# Altium integrated library Panasonic Relays Power Relays (Over 2A).IntLib: 286 symbols (part 4 of 8)
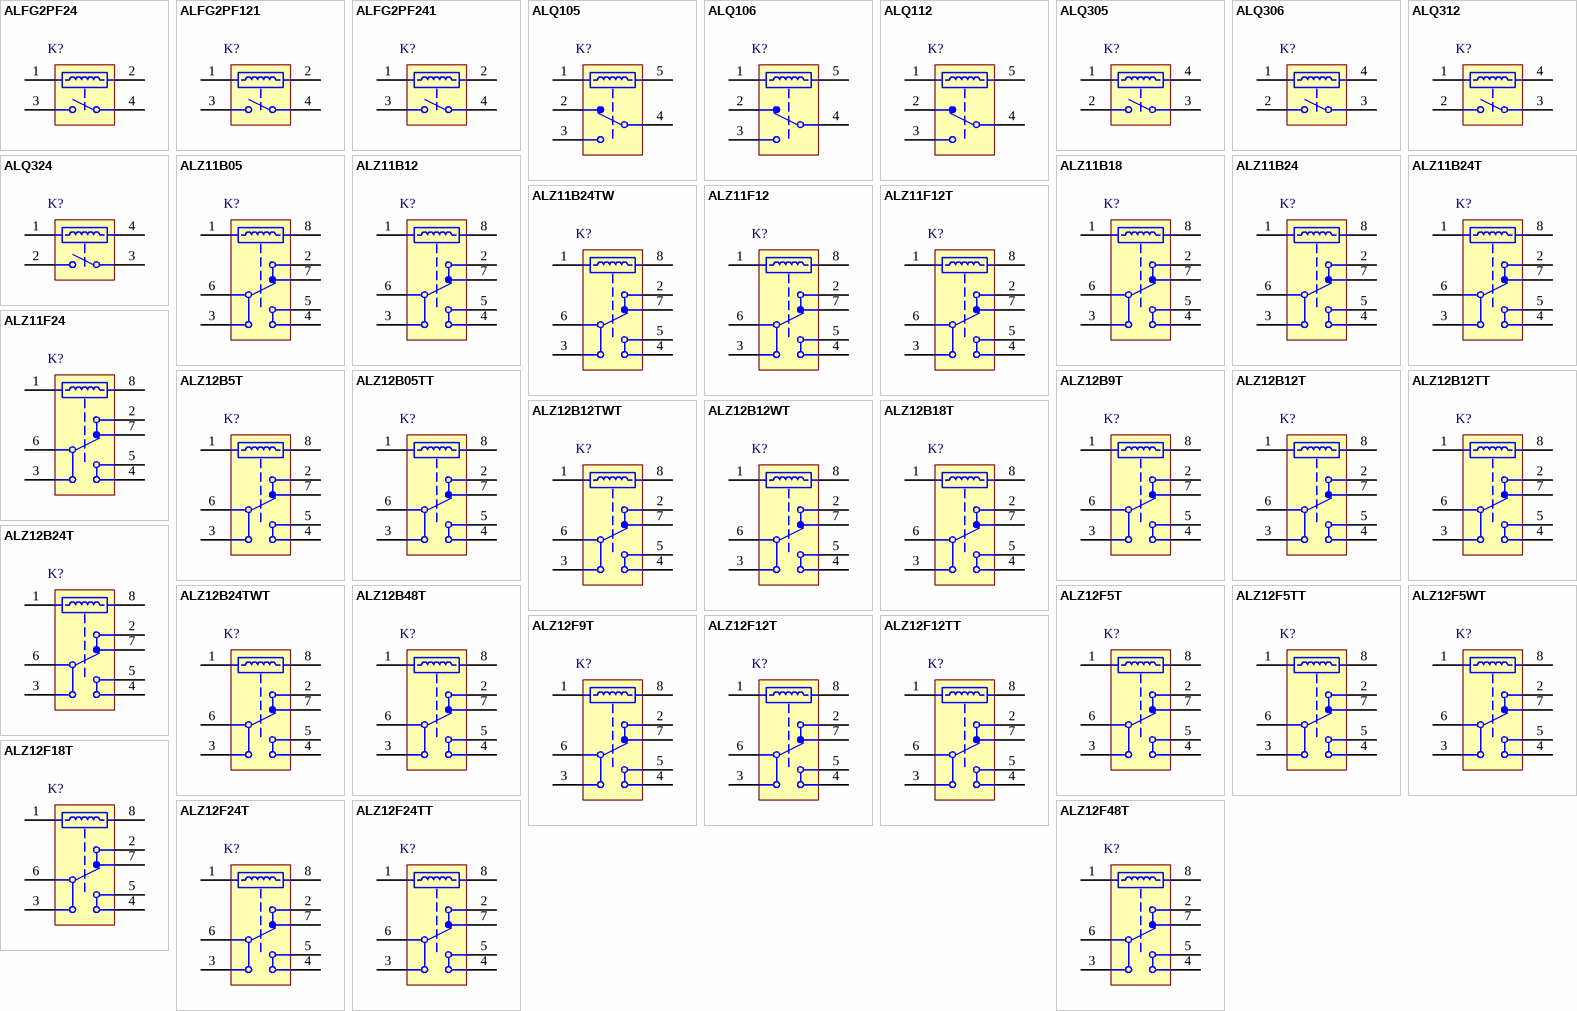
[diagram p10: symbols ALFG2PF24 to ALZ12F48T]

## ALZ12F24TT
designator K?
LZ Relays, 24 V Coil Voltage, 400 mW Nominal Operating Power, -40 to 85 degC, 8-Pin LZ, Carton, Case, RoHS; Manufacturer: Panasonic; PartNumber: ALZ12F24TT; Coil Voltage: 24 V; Electrical Life: 1x10^5 (N.O.), 5x10^4 (N.C.); Max Switching Current: 16 A; Max Switching Voltage: 440 V AC; Mechanical Life(Min.operation): 1x10^7; Nominal Operating Power: 400 mW; Pb-Free: True; DatasheetVersion: 201402-T; PackageVersion: ASCTB203E, 02/2014; PackageReference: LZ-8-2880x1250x1570; PackageDescription: 8-Pin Through Hole Terminal Package, Body 28.8 x 12.5 mm; Packing: Carton, Case; RoHS: True; Series: LZ Relays; Mounting Technology: Through Hole; ComponentLink1Description: Manufacturer URL; ComponentLink1URL: http://www3.panasonic.biz/ac/ae/index.jsp; ComponentLink2Description: Datasheet; ComponentLink2URL: http://www3.panasonic.biz/ac/e_download/control/relay/power/catalog/mech_eng_lz.pdf?f_cd=300372; ComponentLink3Description: Package Specification; ComponentLink3URL: http://www3.panasonic.biz/ac/e_download/control/relay/power/catalog/mech_eng_lz.pdf?f_cd=300372
footprint PNSC-LZ-8-2880x1250x1570_V (LZ, 8-Leads, Body 28.8x12.5mm)
pins: 1, 2, 3, 4, 5, 6, 7, 8

## ALZ12F48T
designator K?
LZ Relays, 48 V Coil Voltage, 400 mW Nominal Operating Power, -40 to 85 degC, 8-Pin LZ, Carton, Case, RoHS; Manufacturer: Panasonic; PartNumber: ALZ12F48T; Coil Voltage: 48 V; Electrical Life: 1x10^5 (N.O.), 5x10^4 (N.C.); Max Switching Current: 16 A; Max Switching Voltage: 440 V AC; Mechanical Life(Min.operation): 1x10^7; Nominal Operating Power: 400 mW; Pb-Free: True; DatasheetVersion: 201202-T; PackageVersion: ASCTB203E, 02/2014; PackageReference: LZ-8-2880x1250x1570; PackageDescription: 8-Pin Through Hole Terminal Package, Body 28.8 x 12.5 mm; Supplier 1: Mouser; Supplier Part Number 1: N/A; Packing: Carton, Case; RoHS: True; Series: LZ Relays; Mounting Technology: Through Hole; ComponentLink1Description: Manufacturer URL; ComponentLink1URL: http://www3.panasonic.biz/ac/ae/index.jsp; ComponentLink2Description: Datasheet; ComponentLink2URL: http://www.electricautomationnetwork.com/en/PA/panasonic/ALZ12B48T; ComponentLink3Description: Package Specification; ComponentLink3URL: http://www3.panasonic.biz/ac/e_download/control/relay/power/catalog/mech_eng_lz.pdf?f_cd=300372
footprint PNSC-LZ-8-2880x1250x1570_V (LZ, 8-Leads, Body 28.8x12.5mm)
pins: 1, 2, 3, 4, 5, 6, 7, 8

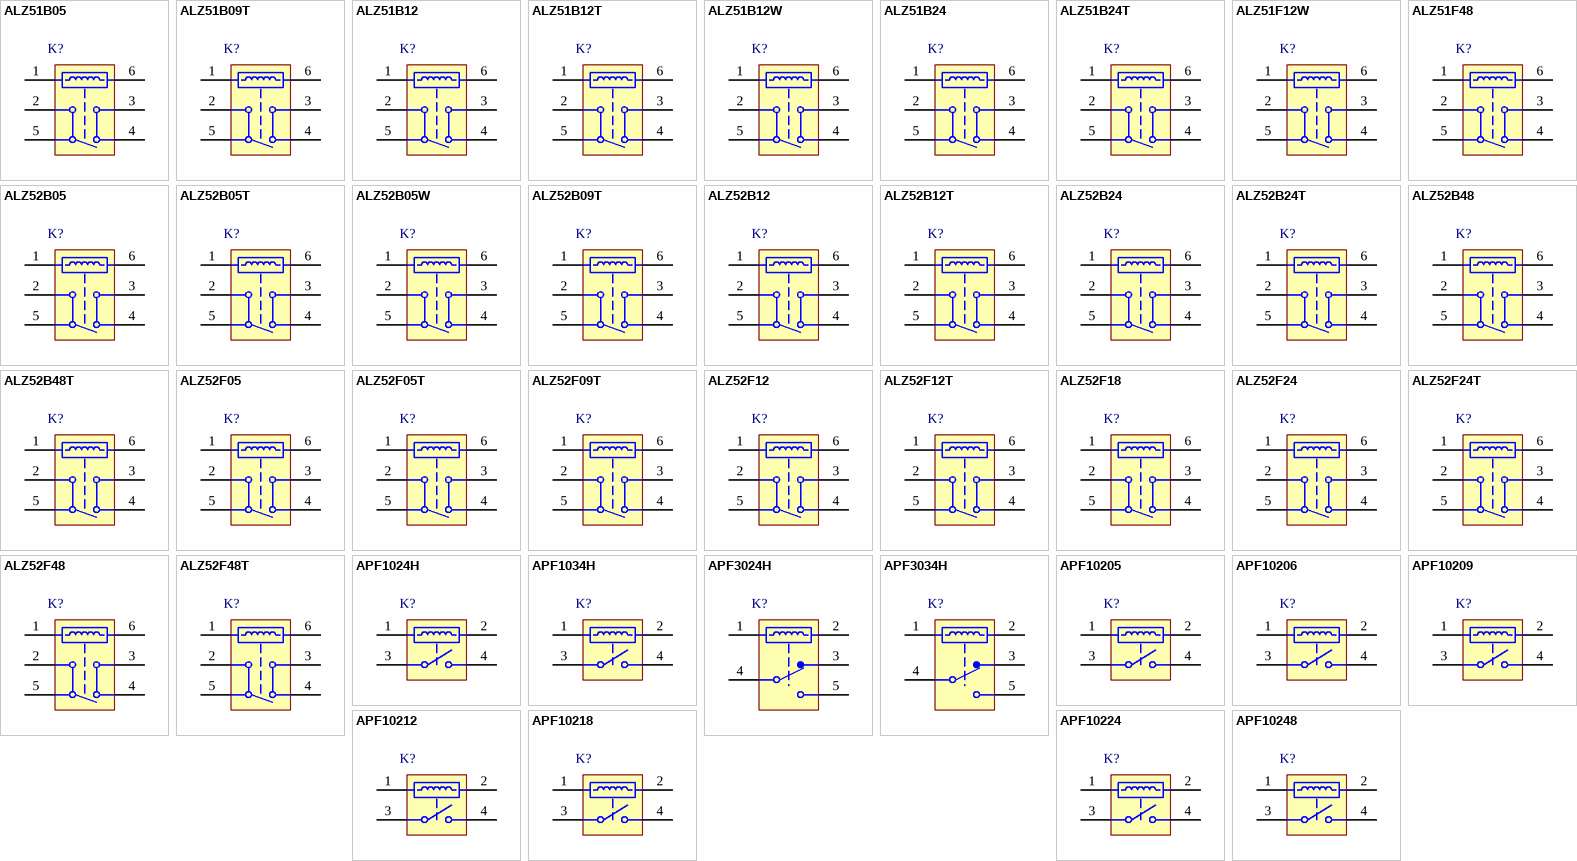
[diagram p3: symbols ALZ51B05 to APF10248]

## ALZ51B05
designator K?
LZ Relays, 5 V Coil Voltage, 400 mW Nominal Operating Power, -40 to 85 degC, 6-Pin LZ, Carton, Case, RoHS; Manufacturer: Panasonic; PartNumber: ALZ51B05; Coil Voltage: 5 V; Electrical Life: 1x10^5 (N.O.), 5x10^4 (N.C.); Max Switching Current: 16 A; Max Switching Voltage: 440 V AC; Mechanical Life(Min.operation): 1x10^7; Nominal Operating Power: 400 mW; Pb-Free: True; DatasheetVersion: 201402-T; PackageVersion: ASCTB203E, 02/2014; PackageReference: LZ-6-2880x1250x1570; PackageDescription: 6-Pin Through Hole Terminal Package, Body 28.8 x 12.5 mm; Supplier 1: Mouser; Supplier Part Number 1: 769-ALZ51B05; Supplier 2: Digi-Key; Supplier Part Number 2: 255-4090-5-ND; Packing: Carton, Case; RoHS: True; Series: LZ Relays; Mounting Technology: Through Hole; ComponentLink1Description: Manufacturer URL; ComponentLink1URL: http://www3.panasonic.biz/ac/ae/index.jsp; ComponentLink2Description: Datasheet; ComponentLink2URL: http://www3.panasonic.biz/ac/e_download/control/relay/power/catalog/mech_eng_lz.pdf?f_cd=300372; ComponentLink3Description: Package Specification; ComponentLink3URL: http://www3.panasonic.biz/ac/e_download/control/relay/power/catalog/mech_eng_lz.pdf?f_cd=300372
footprint PNSC-LZ-6-2880x1250x1570_V (LZ, 6-Leads, Body 28.8x12.5mm)
pins: 1, 2, 3, 4, 5, 6

## ALZ51B09T
designator K?
LZ Relays, 9 V Coil Voltage, 400 mW Nominal Operating Power, -40 to 85 degC, 6-Pin LZ, Carton, Case, RoHS; Manufacturer: Panasonic; PartNumber: ALZ51B09T; Coil Voltage: 9 V; Electrical Life: 1x10^5 (N.O.), 5x10^4 (N.C.); Max Switching Current: 16 A; Max Switching Voltage: 440 V AC; Mechanical Life(Min.operation): 1x10^7; Nominal Operating Power: 400 mW; Pb-Free: True; DatasheetVersion: 201402-T; PackageVersion: ASCTB203E, 02/2014; PackageReference: LZ-6-2880x1250x1570; PackageDescription: 6-Pin Through Hole Terminal Package, Body 28.8 x 12.5 mm; Supplier 1: Mouser; Supplier Part Number 1: N/A; Supplier 2: Mouser; Supplier Part Number 2: N/A; Supplier 3: Digi-Key; Supplier Part Number 3: ALZ51B09T-ND; Packing: Carton, Case; RoHS: True; Series: LZ Relays; Mounting Technology: Through Hole; ComponentLink1Description: Manufacturer URL; ComponentLink1URL: http://www3.panasonic.biz/ac/ae/index.jsp; ComponentLink2Description: Datasheet; ComponentLink2URL: http://www3.panasonic.biz/ac/e_download/control/relay/power/catalog/mech_eng_lz.pdf?f_cd=300372; ComponentLink3Description: Package Specification; ComponentLink3URL: http://www3.panasonic.biz/ac/e_download/control/relay/power/catalog/mech_eng_lz.pdf?f_cd=300372
footprint PNSC-LZ-6-2880x1250x1570_V (LZ, 6-Leads, Body 28.8x12.5mm)
pins: 1, 2, 3, 4, 5, 6

## ALZ51B12
designator K?
LZ Relays, 12 V Coil Voltage, 400 mW Nominal Operating Power, -40 to 85 degC, 6-Pin LZ, Carton, Case, RoHS; Manufacturer: Panasonic; PartNumber: ALZ51B12; Coil Voltage: 12 V; Electrical Life: 1x10^5 (N.O.), 5x10^4 (N.C.); Max Switching Current: 16 A; Max Switching Voltage: 440 V AC; Mechanical Life(Min.operation): 1x10^7; Nominal Operating Power: 400 mW; Pb-Free: True; DatasheetVersion: 201402-T; PackageVersion: ASCTB203E, 02/2014; PackageReference: LZ-6-2880x1250x1570; PackageDescription: 6-Pin Through Hole Terminal Package, Body 28.8 x 12.5 mm; Supplier 1: Mouser; Supplier Part Number 1: 769-ALZ51B12; Supplier 2: Digi-Key; Supplier Part Number 2: 255-2972-ND; Packing: Carton, Case; RoHS: True; Series: LZ Relays; Mounting Technology: Through Hole; ComponentLink1Description: Manufacturer URL; ComponentLink1URL: http://www3.panasonic.biz/ac/ae/index.jsp; ComponentLink2Description: Datasheet; ComponentLink2URL: http://www3.panasonic.biz/ac/e_download/control/relay/power/catalog/mech_eng_lz.pdf?f_cd=300372; ComponentLink3Description: Package Specification; ComponentLink3URL: http://www3.panasonic.biz/ac/e_download/control/relay/power/catalog/mech_eng_lz.pdf?f_cd=300372
footprint PNSC-LZ-6-2880x1250x1570_V (LZ, 6-Leads, Body 28.8x12.5mm)
pins: 1, 2, 3, 4, 5, 6

## ALZ51B12T
designator K?
LZ Relays, 12 V Coil Voltage, 400 mW Nominal Operating Power, -40 to 85 degC, 6-Pin LZ, Carton, Case, RoHS; Manufacturer: Panasonic; PartNumber: ALZ51B12T; Coil Voltage: 12 V; Electrical Life: 1x10^5 (N.O.), 5x10^4 (N.C.); Max Switching Current: 16 A; Max Switching Voltage: 440 V AC; Mechanical Life(Min.operation): 1x10^7; Nominal Operating Power: 400 mW; Pb-Free: True; DatasheetVersion: 201402-T; PackageVersion: ASCTB203E, 02/2014; PackageReference: LZ-6-2880x1250x1570; PackageDescription: 6-Pin Through Hole Terminal Package, Body 28.8 x 12.5 mm; Supplier 1: Mouser; Supplier Part Number 1: 769-ALZ51B12T; Supplier 2: Digi-Key; Supplier Part Number 2: ALZ51B12T-ND; Packing: Carton, Case; RoHS: True; Series: LZ Relays; Mounting Technology: Through Hole; ComponentLink1Description: Manufacturer URL; ComponentLink1URL: http://www3.panasonic.biz/ac/ae/index.jsp; ComponentLink2Description: Datasheet; ComponentLink2URL: http://www3.panasonic.biz/ac/e_download/control/relay/power/catalog/mech_eng_lz.pdf?f_cd=300372; ComponentLink3Description: Package Specification; ComponentLink3URL: http://www3.panasonic.biz/ac/e_download/control/relay/power/catalog/mech_eng_lz.pdf?f_cd=300372
footprint PNSC-LZ-6-2880x1250x1570_V (LZ, 6-Leads, Body 28.8x12.5mm)
pins: 1, 2, 3, 4, 5, 6

## ALZ51B12W
designator K?
LZ Relays, 12 V Coil Voltage, 400 mW Nominal Operating Power, -40 to 85 degC, 6-Pin LZ, Carton, Case, RoHS; Manufacturer: Panasonic; PartNumber: ALZ51B12W; Coil Voltage: 12 V; Electrical Life: 1x10^5 (N.O.), 5x10^4 (N.C.); Max Switching Current: 16 A; Max Switching Voltage: 440 V AC; Mechanical Life(Min.operation): 1x10^7; Nominal Operating Power: 400 mW; Pb-Free: True; DatasheetVersion: 201402-T; PackageVersion: ASCTB203E, 02/2014; PackageReference: LZ-6-2880x1250x1570; PackageDescription: 6-Pin Through Hole Terminal Package, Body 28.8 x 12.5 mm; Supplier 1: Mouser; Supplier Part Number 1: 769-ALZ51B12W; Supplier 2: Digi-Key; Supplier Part Number 2: ALZ51B12W-ND; Packing: Carton, Case; RoHS: True; Series: LZ Relays; Mounting Technology: Through Hole; ComponentLink1Description: Manufacturer URL; ComponentLink1URL: http://www3.panasonic.biz/ac/ae/index.jsp; ComponentLink2Description: Datasheet; ComponentLink2URL: http://www3.panasonic.biz/ac/e_download/control/relay/power/catalog/mech_eng_lz.pdf?f_cd=300372; ComponentLink3Description: Package Specification; ComponentLink3URL: http://www3.panasonic.biz/ac/e_download/control/relay/power/catalog/mech_eng_lz.pdf?f_cd=300372
footprint PNSC-LZ-6-2880x1250x1570_V (LZ, 6-Leads, Body 28.8x12.5mm)
pins: 1, 2, 3, 4, 5, 6

## ALZ51B24
designator K?
LZ Relays, 24 V Coil Voltage, 400 mW Nominal Operating Power, -40 to 85 degC, 6-Pin LZ, Carton, Case, RoHS; Manufacturer: Panasonic; PartNumber: ALZ51B24; Coil Voltage: 24 V; Electrical Life: 1x10^5 (N.O.), 5x10^4 (N.C.); Max Switching Current: 16 A; Max Switching Voltage: 440 V AC; Mechanical Life(Min.operation): 1x10^7; Nominal Operating Power: 400 mW; Pb-Free: True; DatasheetVersion: 201402-T; PackageVersion: ASCTB203E, 02/2014; PackageReference: LZ-6-2880x1250x1570; PackageDescription: 6-Pin Through Hole Terminal Package, Body 28.8 x 12.5 mm; Supplier 1: Mouser; Supplier Part Number 1: 769-ALZ51B24; Supplier 2: Digi-Key; Supplier Part Number 2: 255-2944-ND; Packing: Carton, Case; RoHS: True; Series: LZ Relays; Mounting Technology: Through Hole; ComponentLink1Description: Manufacturer URL; ComponentLink1URL: http://www3.panasonic.biz/ac/ae/index.jsp; ComponentLink2Description: Datasheet; ComponentLink2URL: http://www3.panasonic.biz/ac/e_download/control/relay/power/catalog/mech_eng_lz.pdf?f_cd=300372; ComponentLink3Description: Package Specification; ComponentLink3URL: http://www3.panasonic.biz/ac/e_download/control/relay/power/catalog/mech_eng_lz.pdf?f_cd=300372
footprint PNSC-LZ-6-2880x1250x1570_V (LZ, 6-Leads, Body 28.8x12.5mm)
pins: 1, 2, 3, 4, 5, 6

## ALZ51B24T
designator K?
LZ Relays, 24 V Coil Voltage, 400 mW Nominal Operating Power, -40 to 85 degC, 6-Pin LZ, Carton, Case, RoHS; Manufacturer: Panasonic; PartNumber: ALZ51B24T; Coil Voltage: 24 V; Electrical Life: 1x10^5 (N.O.), 5x10^4 (N.C.); Max Switching Current: 16 A; Max Switching Voltage: 440 V AC; Mechanical Life(Min.operation): 1x10^7; Nominal Operating Power: 400 mW; Pb-Free: True; DatasheetVersion: 201402-T; PackageVersion: ASCTB203E, 02/2014; PackageReference: LZ-6-2880x1250x1570; PackageDescription: 6-Pin Through Hole Terminal Package, Body 28.8 x 12.5 mm; Supplier 1: Mouser; Supplier Part Number 1: N/A; Supplier 2: Mouser; Supplier Part Number 2: N/A; Supplier 3: Digi-Key; Supplier Part Number 3: ALZ51B24T-ND; Packing: Carton, Case; RoHS: True; Series: LZ Relays; Mounting Technology: Through Hole; ComponentLink1Description: Manufacturer URL; ComponentLink1URL: http://www3.panasonic.biz/ac/ae/index.jsp; ComponentLink2Description: Datasheet; ComponentLink2URL: http://www3.panasonic.biz/ac/e_download/control/relay/power/catalog/mech_eng_lz.pdf?f_cd=300372; ComponentLink3Description: Package Specification; ComponentLink3URL: http://www3.panasonic.biz/ac/e_download/control/relay/power/catalog/mech_eng_lz.pdf?f_cd=300372
footprint PNSC-LZ-6-2880x1250x1570_V (LZ, 6-Leads, Body 28.8x12.5mm)
pins: 1, 2, 3, 4, 5, 6

## ALZ51F12W
designator K?
LZ Relays, 12 V Coil Voltage, 400 mW Nominal Operating Power, -40 to 85 degC, 6-Pin LZ, Carton, Case, RoHS; Manufacturer: Panasonic; PartNumber: ALZ51F12W; Coil Voltage: 12 V; Electrical Life: 1x10^5 (N.O.), 5x10^4 (N.C.); Max Switching Current: 16 A; Max Switching Voltage: 440 V AC; Mechanical Life(Min.operation): 1x10^7; Nominal Operating Power: 400 mW; Pb-Free: True; DatasheetVersion: 201402-T; PackageVersion: ASCTB203E, 02/2014; PackageReference: LZ-6-2880x1250x1570; PackageDescription: 6-Pin Through Hole Terminal Package, Body 28.8 x 12.5 mm; Supplier 1: Mouser; Supplier Part Number 1: 769-ALZ51F12W; Supplier 2: Digi-Key; Supplier Part Number 2: ALZ51F12W-ND; Packing: Carton, Case; RoHS: True; Series: LZ Relays; Mounting Technology: Through Hole; ComponentLink1Description: Manufacturer URL; ComponentLink1URL: http://www3.panasonic.biz/ac/ae/index.jsp; ComponentLink2Description: Datasheet; ComponentLink2URL: http://www3.panasonic.biz/ac/e_download/control/relay/power/catalog/mech_eng_lz.pdf?f_cd=300372; ComponentLink3Description: Package Specification; ComponentLink3URL: http://www3.panasonic.biz/ac/e_download/control/relay/power/catalog/mech_eng_lz.pdf?f_cd=300372
footprint PNSC-LZ-6-2880x1250x1570_V (LZ, 6-Leads, Body 28.8x12.5mm)
pins: 1, 2, 3, 4, 5, 6

## ALZ51F48
designator K?
LZ Relays, 48 V Coil Voltage, 400 mW Nominal Operating Power, -40 to 85 degC, 6-Pin LZ, Carton, Case, RoHS; Manufacturer: Panasonic; PartNumber: ALZ51F48; Coil Voltage: 48 V; Electrical Life: 1x10^5 (N.O.), 5x10^4 (N.C.); Max Switching Current: 16 A; Max Switching Voltage: 440 V AC; Mechanical Life(Min.operation): 1x10^7; Nominal Operating Power: 400 mW; Pb-Free: True; DatasheetVersion: 201202-T; PackageVersion: ASCTB203E, 02/2014; PackageReference: LZ-6-2880x1250x1570; PackageDescription: 6-Pin Through Hole Terminal Package, Body 28.8 x 12.5 mm; Supplier 1: Mouser; Supplier Part Number 1: 769-ALZ51F48; Supplier 2: Digi-Key; Supplier Part Number 2: ALZ51F48-ND; Packing: Carton, Case; RoHS: True; Series: LZ Relays; Mounting Technology: Through Hole; ComponentLink1Description: Manufacturer URL; ComponentLink1URL: http://www3.panasonic.biz/ac/ae/index.jsp; ComponentLink2Description: Datasheet; ComponentLink2URL: http://datasheet.octopart.com/ALZ52F48T-Panasonic-datasheet-12512151.pdf; ComponentLink3Description: Package Specification; ComponentLink3URL: http://www3.panasonic.biz/ac/e_download/control/relay/power/catalog/mech_eng_lz.pdf?f_cd=300372
footprint PNSC-LZ-6-2880x1250x1570_V (LZ, 6-Leads, Body 28.8x12.5mm)
pins: 1, 2, 3, 4, 5, 6

## ALZ52B05
designator K?
LZ Relays, 5 V Coil Voltage, 400 mW Nominal Operating Power, -40 to 85 degC, 6-Pin LZ, Carton, Case, RoHS; Manufacturer: Panasonic; PartNumber: ALZ52B05; Coil Voltage: 5 V; Electrical Life: 1x10^5 (N.O.), 5x10^4 (N.C.); Max Switching Current: 16 A; Max Switching Voltage: 440 V AC; Mechanical Life(Min.operation): 1x10^7; Nominal Operating Power: 400 mW; Pb-Free: True; DatasheetVersion: 201402-T; PackageVersion: ASCTB203E, 02/2014; PackageReference: LZ-6-2880x1250x1570; PackageDescription: 6-Pin Through Hole Terminal Package, Body 28.8 x 12.5 mm; Supplier 1: Mouser; Supplier Part Number 1: 769-ALZ52B05; Supplier 2: Digi-Key; Supplier Part Number 2: 255-4088-5-ND; Packing: Carton, Case; RoHS: True; Series: LZ Relays; Mounting Technology: Through Hole; ComponentLink1Description: Manufacturer URL; ComponentLink1URL: http://www3.panasonic.biz/ac/ae/index.jsp; ComponentLink2Description: Datasheet; ComponentLink2URL: http://www3.panasonic.biz/ac/e_download/control/relay/power/catalog/mech_eng_lz.pdf?f_cd=300372; ComponentLink3Description: Package Specification; ComponentLink3URL: http://www3.panasonic.biz/ac/e_download/control/relay/power/catalog/mech_eng_lz.pdf?f_cd=300372
footprint PNSC-LZ-6-2880x1250x1570_V (LZ, 6-Leads, Body 28.8x12.5mm)
pins: 1, 2, 3, 4, 5, 6

## ALZ52B05T
designator K?
LZ Relays, 5 V Coil Voltage, 400 mW Nominal Operating Power, -40 to 85 degC, 6-Pin LZ, Carton, Case, RoHS; Manufacturer: Panasonic; PartNumber: ALZ52B05T; Coil Voltage: 5 V; Electrical Life: 1x10^5 (N.O.), 5x10^4 (N.C.); Max Switching Current: 16 A; Max Switching Voltage: 440 V AC; Mechanical Life(Min.operation): 1x10^7; Nominal Operating Power: 400 mW; Pb-Free: True; DatasheetVersion: 201402-T; PackageVersion: ASCTB203E, 02/2014; PackageReference: LZ-6-2880x1250x1570; PackageDescription: 6-Pin Through Hole Terminal Package, Body 28.8 x 12.5 mm; Supplier 1: Digi-Key; Supplier Part Number 1: ALZ52B05T-ND; Packing: Carton, Case; RoHS: True; Series: LZ Relays; Mounting Technology: Through Hole; ComponentLink1Description: Manufacturer URL; ComponentLink1URL: http://www3.panasonic.biz/ac/ae/index.jsp; ComponentLink2Description: Datasheet; ComponentLink2URL: http://www3.panasonic.biz/ac/e_download/control/relay/power/catalog/mech_eng_lz.pdf?f_cd=300372; ComponentLink3Description: Package Specification; ComponentLink3URL: http://www3.panasonic.biz/ac/e_download/control/relay/power/catalog/mech_eng_lz.pdf?f_cd=300372
footprint PNSC-LZ-6-2880x1250x1570_V (LZ, 6-Leads, Body 28.8x12.5mm)
pins: 1, 2, 3, 4, 5, 6

## ALZ52B05W
designator K?
LZ Relays, 5 V Coil Voltage, 400 mW Nominal Operating Power, -40 to 85 degC, 6-Pin LZ, Carton, Case, RoHS; Manufacturer: Panasonic; PartNumber: ALZ52B05W; Coil Voltage: 5 V; Electrical Life: 1x10^5 (N.O.), 5x10^4 (N.C.); Max Switching Current: 16 A; Max Switching Voltage: 440 V AC; Mechanical Life(Min.operation): 1x10^7; Nominal Operating Power: 400 mW; Pb-Free: True; DatasheetVersion: 201402-T; PackageVersion: ASCTB203E, 02/2014; PackageReference: LZ-6-2880x1250x1570; PackageDescription: 6-Pin Through Hole Terminal Package, Body 28.8 x 12.5 mm; Supplier 1: Mouser; Supplier Part Number 1: 769-ALZ52B05W; Supplier 2: Digi-Key; Supplier Part Number 2: ALZ52B05W-ND; Packing: Carton, Case; RoHS: True; Series: LZ Relays; Mounting Technology: Through Hole; ComponentLink1Description: Manufacturer URL; ComponentLink1URL: http://www3.panasonic.biz/ac/ae/index.jsp; ComponentLink2Description: Datasheet; ComponentLink2URL: http://www3.panasonic.biz/ac/e_download/control/relay/power/catalog/mech_eng_lz.pdf?f_cd=300372; ComponentLink3Description: Package Specification; ComponentLink3URL: http://www3.panasonic.biz/ac/e_download/control/relay/power/catalog/mech_eng_lz.pdf?f_cd=300372
footprint PNSC-LZ-6-2880x1250x1570_V (LZ, 6-Leads, Body 28.8x12.5mm)
pins: 1, 2, 3, 4, 5, 6

## ALZ52B09T
designator K?
LZ Relays, 9 V Coil Voltage, 400 mW Nominal Operating Power, -40 to 85 degC, 6-Pin LZ, Carton, Case, RoHS; Manufacturer: Panasonic; PartNumber: ALZ52B09T; Coil Voltage: 9 V; Electrical Life: 1x10^5 (N.O.), 5x10^4 (N.C.); Max Switching Current: 16 A; Max Switching Voltage: 440 V AC; Mechanical Life(Min.operation): 1x10^7; Nominal Operating Power: 400 mW; Pb-Free: True; DatasheetVersion: 201402-T; PackageVersion: ASCTB203E, 02/2014; PackageReference: LZ-6-2880x1250x1570; PackageDescription: 6-Pin Through Hole Terminal Package, Body 28.8 x 12.5 mm; Supplier 1: Digi-Key; Supplier Part Number 1: ALZ52B09T-ND; Packing: Carton, Case; RoHS: True; Series: LZ Relays; Mounting Technology: Through Hole; ComponentLink1Description: Manufacturer URL; ComponentLink1URL: http://www3.panasonic.biz/ac/ae/index.jsp; ComponentLink2Description: Datasheet; ComponentLink2URL: http://www3.panasonic.biz/ac/e_download/control/relay/power/catalog/mech_eng_lz.pdf?f_cd=300372; ComponentLink3Description: Package Specification; ComponentLink3URL: http://www3.panasonic.biz/ac/e_download/control/relay/power/catalog/mech_eng_lz.pdf?f_cd=300372
footprint PNSC-LZ-6-2880x1250x1570_V (LZ, 6-Leads, Body 28.8x12.5mm)
pins: 1, 2, 3, 4, 5, 6

## ALZ52B12
designator K?
LZ Relays, 12 V Coil Voltage, 400 mW Nominal Operating Power, -40 to 85 degC, 6-Pin LZ, Carton, Case, RoHS; Manufacturer: Panasonic; PartNumber: ALZ52B12; Coil Voltage: 12 V; Electrical Life: 1x10^5 (N.O.), 5x10^4 (N.C.); Max Switching Current: 16 A; Max Switching Voltage: 440 V AC; Mechanical Life(Min.operation): 1x10^7; Nominal Operating Power: 400 mW; Pb-Free: True; DatasheetVersion: 201402-T; PackageVersion: ASCTB203E, 02/2014; PackageReference: LZ-6-2880x1250x1570; PackageDescription: 6-Pin Through Hole Terminal Package, Body 28.8 x 12.5 mm; Supplier 1: Mouser; Supplier Part Number 1: 769-ALZ52B12; Supplier 2: Digi-Key; Supplier Part Number 2: ALZ52B12-ND; Packing: Carton, Case; RoHS: True; Series: LZ Relays; Mounting Technology: Through Hole; ComponentLink1Description: Manufacturer URL; ComponentLink1URL: http://www3.panasonic.biz/ac/ae/index.jsp; ComponentLink2Description: Datasheet; ComponentLink2URL: http://www3.panasonic.biz/ac/e_download/control/relay/power/catalog/mech_eng_lz.pdf?f_cd=300372; ComponentLink3Description: Package Specification; ComponentLink3URL: http://www3.panasonic.biz/ac/e_download/control/relay/power/catalog/mech_eng_lz.pdf?f_cd=300372
footprint PNSC-LZ-6-2880x1250x1570_V (LZ, 6-Leads, Body 28.8x12.5mm)
pins: 1, 2, 3, 4, 5, 6

## ALZ52B12T
designator K?
LZ Relays, 12 V Coil Voltage, 400 mW Nominal Operating Power, -40 to 85 degC, 6-Pin LZ, Carton, Case, RoHS; Manufacturer: Panasonic; PartNumber: ALZ52B12T; Coil Voltage: 12 V; Electrical Life: 1x10^5 (N.O.), 5x10^4 (N.C.); Max Switching Current: 16 A; Max Switching Voltage: 440 V AC; Mechanical Life(Min.operation): 1x10^7; Nominal Operating Power: 400 mW; Pb-Free: True; DatasheetVersion: 201402-T; PackageVersion: ASCTB203E, 02/2014; PackageReference: LZ-6-2880x1250x1570; PackageDescription: 6-Pin Through Hole Terminal Package, Body 28.8 x 12.5 mm; Supplier 1: Digi-Key; Supplier Part Number 1: ALZ52B12T-ND; Packing: Carton, Case; RoHS: True; Series: LZ Relays; Mounting Technology: Through Hole; ComponentLink1Description: Manufacturer URL; ComponentLink1URL: http://www3.panasonic.biz/ac/ae/index.jsp; ComponentLink2Description: Datasheet; ComponentLink2URL: http://www3.panasonic.biz/ac/e_download/control/relay/power/catalog/mech_eng_lz.pdf?f_cd=300372; ComponentLink3Description: Package Specification; ComponentLink3URL: http://www3.panasonic.biz/ac/e_download/control/relay/power/catalog/mech_eng_lz.pdf?f_cd=300372
footprint PNSC-LZ-6-2880x1250x1570_V (LZ, 6-Leads, Body 28.8x12.5mm)
pins: 1, 2, 3, 4, 5, 6

## ALZ52B24
designator K?
LZ Relays, 24 V Coil Voltage, 400 mW Nominal Operating Power, -40 to 85 degC, 6-Pin LZ, Carton, Case, RoHS; Manufacturer: Panasonic; PartNumber: ALZ52B24; Coil Voltage: 24 V; Electrical Life: 1x10^5 (N.O.), 5x10^4 (N.C.); Max Switching Current: 16 A; Max Switching Voltage: 440 V AC; Mechanical Life(Min.operation): 1x10^7; Nominal Operating Power: 400 mW; Pb-Free: True; DatasheetVersion: 201402-T; PackageVersion: ASCTB203E, 02/2014; PackageReference: LZ-6-2880x1250x1570; PackageDescription: 6-Pin Through Hole Terminal Package, Body 28.8 x 12.5 mm; Supplier 1: Mouser; Supplier Part Number 1: 769-ALZ52B24; Supplier 2: Digi-Key; Supplier Part Number 2: ALZ52B24-ND; Packing: Carton, Case; RoHS: True; Series: LZ Relays; Mounting Technology: Through Hole; ComponentLink1Description: Manufacturer URL; ComponentLink1URL: http://www3.panasonic.biz/ac/ae/index.jsp; ComponentLink2Description: Datasheet; ComponentLink2URL: http://www3.panasonic.biz/ac/e_download/control/relay/power/catalog/mech_eng_lz.pdf?f_cd=300372; ComponentLink3Description: Package Specification; ComponentLink3URL: http://www3.panasonic.biz/ac/e_download/control/relay/power/catalog/mech_eng_lz.pdf?f_cd=300372
footprint PNSC-LZ-6-2880x1250x1570_V (LZ, 6-Leads, Body 28.8x12.5mm)
pins: 1, 2, 3, 4, 5, 6

## ALZ52B24T
designator K?
LZ Relays, 24 V Coil Voltage, 400 mW Nominal Operating Power, -40 to 85 degC, 6-Pin LZ, Carton, Case, RoHS; Manufacturer: Panasonic; PartNumber: ALZ52B24T; Coil Voltage: 24 V; Electrical Life: 1x10^5 (N.O.), 5x10^4 (N.C.); Max Switching Current: 16 A; Max Switching Voltage: 440 V AC; Mechanical Life(Min.operation): 1x10^7; Nominal Operating Power: 400 mW; Pb-Free: True; DatasheetVersion: 201402-T; PackageVersion: ASCTB203E, 02/2014; PackageReference: LZ-6-2880x1250x1570; PackageDescription: 6-Pin Through Hole Terminal Package, Body 28.8 x 12.5 mm; Supplier 1: Mouser; Supplier Part Number 1: N/A; Supplier 2: Mouser; Supplier Part Number 2: N/A; Supplier 3: Digi-Key; Supplier Part Number 3: ALZ52B24T-ND; Packing: Carton, Case; RoHS: True; Series: LZ Relays; Mounting Technology: Through Hole; ComponentLink1Description: Manufacturer URL; ComponentLink1URL: http://www3.panasonic.biz/ac/ae/index.jsp; ComponentLink2Description: Datasheet; ComponentLink2URL: http://www3.panasonic.biz/ac/e_download/control/relay/power/catalog/mech_eng_lz.pdf?f_cd=300372; ComponentLink3Description: Package Specification; ComponentLink3URL: http://www3.panasonic.biz/ac/e_download/control/relay/power/catalog/mech_eng_lz.pdf?f_cd=300372
footprint PNSC-LZ-6-2880x1250x1570_V (LZ, 6-Leads, Body 28.8x12.5mm)
pins: 1, 2, 3, 4, 5, 6

## ALZ52B48
designator K?
LZ Relays, 48 V Coil Voltage, 400 mW Nominal Operating Power, -40 to 85 degC, 6-Pin LZ, Carton, Case, RoHS; Manufacturer: Panasonic; PartNumber: ALZ52B48; Coil Voltage: 48 V; Electrical Life: 1x10^5 (N.O.), 5x10^4 (N.C.); Max Switching Current: 16 A; Max Switching Voltage: 440 V AC; Mechanical Life(Min.operation): 1x10^7; Nominal Operating Power: 400 mW; Pb-Free: True; DatasheetVersion: 201202-T; PackageVersion: ASCTB203E, 02/2014; PackageReference: LZ-6-2880x1250x1570; PackageDescription: 6-Pin Through Hole Terminal Package, Body 28.8 x 12.5 mm; Supplier 1: Mouser; Supplier Part Number 1: 769-ALZ52B48; Supplier 2: Digi-Key; Supplier Part Number 2: ALZ52B48-ND; Packing: Carton, Case; RoHS: True; Series: LZ Relays; Mounting Technology: Through Hole; ComponentLink1Description: Manufacturer URL; ComponentLink1URL: http://www3.panasonic.biz/ac/ae/index.jsp; ComponentLink2Description: Datasheet; ComponentLink2URL: http://datasheet.octopart.com/ALZ52F48T-Panasonic-datasheet-12512151.pdf; ComponentLink3Description: Package Specification; ComponentLink3URL: http://www3.panasonic.biz/ac/e_download/control/relay/power/catalog/mech_eng_lz.pdf?f_cd=300372
footprint PNSC-LZ-6-2880x1250x1570_V (LZ, 6-Leads, Body 28.8x12.5mm)
pins: 1, 2, 3, 4, 5, 6

## ALZ52B48T
designator K?
LZ Relays, 48 V Coil Voltage, 400 mW Nominal Operating Power, -40 to 85 degC, 6-Pin LZ, Carton, Case, RoHS; Manufacturer: Panasonic; PartNumber: ALZ52B48T; Coil Voltage: 48 V; Electrical Life: 1x10^5 (N.O.), 5x10^4 (N.C.); Max Switching Current: 16 A; Max Switching Voltage: 440 V AC; Mechanical Life(Min.operation): 1x10^7; Nominal Operating Power: 400 mW; Pb-Free: True; DatasheetVersion: 201202-T; PackageVersion: ASCTB203E, 02/2014; PackageReference: LZ-6-2880x1250x1570; PackageDescription: 6-Pin Through Hole Terminal Package, Body 28.8 x 12.5 mm; Supplier 1: Digi-Key; Supplier Part Number 1: ALZ52B48T-ND; Packing: Carton, Case; RoHS: True; Series: LZ Relays; Mounting Technology: Through Hole; ComponentLink1Description: Manufacturer URL; ComponentLink1URL: http://www3.panasonic.biz/ac/ae/index.jsp; ComponentLink2Description: Datasheet; ComponentLink2URL: http://datasheet.octopart.com/ALZ52F48T-Panasonic-datasheet-12512151.pdf; ComponentLink3Description: Package Specification; ComponentLink3URL: http://www3.panasonic.biz/ac/e_download/control/relay/power/catalog/mech_eng_lz.pdf?f_cd=300372
footprint PNSC-LZ-6-2880x1250x1570_V (LZ, 6-Leads, Body 28.8x12.5mm)
pins: 1, 2, 3, 4, 5, 6

## ALZ52F05
designator K?
LZ Relays, 5 V Coil Voltage, 400 mW Nominal Operating Power, -40 to 85 degC, 6-Pin LZ, Carton, Case, RoHS; Manufacturer: Panasonic; PartNumber: ALZ52F05; Coil Voltage: 5 V; Electrical Life: 1x10^5 (N.O.), 5x10^4 (N.C.); Max Switching Current: 16 A; Max Switching Voltage: 440 V AC; Mechanical Life(Min.operation): 1x10^7; Nominal Operating Power: 400 mW; Pb-Free: True; DatasheetVersion: 201402-T; PackageVersion: ASCTB203E, 02/2014; PackageReference: LZ-6-2880x1250x1570; PackageDescription: 6-Pin Through Hole Terminal Package, Body 28.8 x 12.5 mm; Supplier 1: Mouser; Supplier Part Number 1: 769-ALZ52F05; Supplier 2: Digi-Key; Supplier Part Number 2: ALZ52F05-ND; Packing: Carton, Case; RoHS: True; Series: LZ Relays; Mounting Technology: Through Hole; ComponentLink1Description: Manufacturer URL; ComponentLink1URL: http://www3.panasonic.biz/ac/ae/index.jsp; ComponentLink2Description: Datasheet; ComponentLink2URL: http://www3.panasonic.biz/ac/e_download/control/relay/power/catalog/mech_eng_lz.pdf?f_cd=300372; ComponentLink3Description: Package Specification; ComponentLink3URL: http://www3.panasonic.biz/ac/e_download/control/relay/power/catalog/mech_eng_lz.pdf?f_cd=300372
footprint PNSC-LZ-6-2880x1250x1570_V (LZ, 6-Leads, Body 28.8x12.5mm)
pins: 1, 2, 3, 4, 5, 6

## ALZ52F05T
designator K?
LZ Relays, 5 V Coil Voltage, 400 mW Nominal Operating Power, -40 to 85 degC, 6-Pin LZ, Carton, Case, RoHS; Manufacturer: Panasonic; PartNumber: ALZ52F05T; Coil Voltage: 5 V; Electrical Life: 1x10^5 (N.O.), 5x10^4 (N.C.); Max Switching Current: 16 A; Max Switching Voltage: 440 V AC; Mechanical Life(Min.operation): 1x10^7; Nominal Operating Power: 400 mW; Pb-Free: True; DatasheetVersion: 201402-T; PackageVersion: ASCTB203E, 02/2014; PackageReference: LZ-6-2880x1250x1570; PackageDescription: 6-Pin Through Hole Terminal Package, Body 28.8 x 12.5 mm; Supplier 1: Digi-Key; Supplier Part Number 1: ALZ52F05T-ND; Packing: Carton, Case; RoHS: True; Series: LZ Relays; Mounting Technology: Through Hole; ComponentLink1Description: Manufacturer URL; ComponentLink1URL: http://www3.panasonic.biz/ac/ae/index.jsp; ComponentLink2Description: Datasheet; ComponentLink2URL: http://www3.panasonic.biz/ac/e_download/control/relay/power/catalog/mech_eng_lz.pdf?f_cd=300372; ComponentLink3Description: Package Specification; ComponentLink3URL: http://www3.panasonic.biz/ac/e_download/control/relay/power/catalog/mech_eng_lz.pdf?f_cd=300372
footprint PNSC-LZ-6-2880x1250x1570_V (LZ, 6-Leads, Body 28.8x12.5mm)
pins: 1, 2, 3, 4, 5, 6

## ALZ52F09T
designator K?
LZ Relays, 9 V Coil Voltage, 400 mW Nominal Operating Power, -40 to 85 degC, 6-Pin LZ, Carton, Case, RoHS; Manufacturer: Panasonic; PartNumber: ALZ52F09T; Coil Voltage: 9 V; Electrical Life: 1x10^5 (N.O.), 5x10^4 (N.C.); Max Switching Current: 16 A; Max Switching Voltage: 440 V AC; Mechanical Life(Min.operation): 1x10^7; Nominal Operating Power: 400 mW; Pb-Free: True; DatasheetVersion: 201402-T; PackageVersion: ASCTB203E, 02/2014; PackageReference: LZ-6-2880x1250x1570; PackageDescription: 6-Pin Through Hole Terminal Package, Body 28.8 x 12.5 mm; Supplier 1: Mouser; Supplier Part Number 1: N/A; Supplier 2: Mouser; Supplier Part Number 2: N/A; Supplier 3: Digi-Key; Supplier Part Number 3: ALZ52F09T-ND; Packing: Carton, Case; RoHS: True; Series: LZ Relays; Mounting Technology: Through Hole; ComponentLink1Description: Manufacturer URL; ComponentLink1URL: http://www3.panasonic.biz/ac/ae/index.jsp; ComponentLink2Description: Datasheet; ComponentLink2URL: http://www3.panasonic.biz/ac/e_download/control/relay/power/catalog/mech_eng_lz.pdf?f_cd=300372; ComponentLink3Description: Package Specification; ComponentLink3URL: http://www3.panasonic.biz/ac/e_download/control/relay/power/catalog/mech_eng_lz.pdf?f_cd=300372
footprint PNSC-LZ-6-2880x1250x1570_V (LZ, 6-Leads, Body 28.8x12.5mm)
pins: 1, 2, 3, 4, 5, 6

## ALZ52F12
designator K?
LZ Relays, 12 V Coil Voltage, 400 mW Nominal Operating Power, -40 to 85 degC, 6-Pin LZ, Carton, Case, RoHS; Manufacturer: Panasonic; PartNumber: ALZ52F12; Coil Voltage: 12 V; Electrical Life: 1x10^5 (N.O.), 5x10^4 (N.C.); Max Switching Current: 16 A; Max Switching Voltage: 440 V AC; Mechanical Life(Min.operation): 1x10^7; Nominal Operating Power: 400 mW; Pb-Free: True; DatasheetVersion: 201402-T; PackageVersion: ASCTB203E, 02/2014; PackageReference: LZ-6-2880x1250x1570; PackageDescription: 6-Pin Through Hole Terminal Package, Body 28.8 x 12.5 mm; Supplier 1: Mouser; Supplier Part Number 1: 769-ALZ52F12; Supplier 2: Digi-Key; Supplier Part Number 2: 255-4087-5-ND; Packing: Carton, Case; RoHS: True; Series: LZ Relays; Mounting Technology: Through Hole; ComponentLink1Description: Manufacturer URL; ComponentLink1URL: http://www3.panasonic.biz/ac/ae/index.jsp; ComponentLink2Description: Datasheet; ComponentLink2URL: http://www3.panasonic.biz/ac/e_download/control/relay/power/catalog/mech_eng_lz.pdf?f_cd=300372; ComponentLink3Description: Package Specification; ComponentLink3URL: http://www3.panasonic.biz/ac/e_download/control/relay/power/catalog/mech_eng_lz.pdf?f_cd=300372
footprint PNSC-LZ-6-2880x1250x1570_V (LZ, 6-Leads, Body 28.8x12.5mm)
pins: 1, 2, 3, 4, 5, 6

## ALZ52F12T
designator K?
LZ Relays, 12 V Coil Voltage, 400 mW Nominal Operating Power, -40 to 85 degC, 6-Pin LZ, Carton, Case, RoHS; Manufacturer: Panasonic; PartNumber: ALZ52F12T; Coil Voltage: 12 V; Electrical Life: 1x10^5 (N.O.), 5x10^4 (N.C.); Max Switching Current: 16 A; Max Switching Voltage: 440 V AC; Mechanical Life(Min.operation): 1x10^7; Nominal Operating Power: 400 mW; Pb-Free: True; DatasheetVersion: 201402-T; PackageVersion: ASCTB203E, 02/2014; PackageReference: LZ-6-2880x1250x1570; PackageDescription: 6-Pin Through Hole Terminal Package, Body 28.8 x 12.5 mm; Supplier 1: Digi-Key; Supplier Part Number 1: ALZ52F12T-ND; Packing: Carton, Case; RoHS: True; Series: LZ Relays; Mounting Technology: Through Hole; ComponentLink1Description: Manufacturer URL; ComponentLink1URL: http://www3.panasonic.biz/ac/ae/index.jsp; ComponentLink2Description: Datasheet; ComponentLink2URL: http://www3.panasonic.biz/ac/e_download/control/relay/power/catalog/mech_eng_lz.pdf?f_cd=300372; ComponentLink3Description: Package Specification; ComponentLink3URL: http://www3.panasonic.biz/ac/e_download/control/relay/power/catalog/mech_eng_lz.pdf?f_cd=300372
footprint PNSC-LZ-6-2880x1250x1570_V (LZ, 6-Leads, Body 28.8x12.5mm)
pins: 1, 2, 3, 4, 5, 6

## ALZ52F18
designator K?
LZ Relays, 18 V Coil Voltage, 400 mW Nominal Operating Power, -40 to 85 degC, 6-Pin LZ, Carton, Case, RoHS; Manufacturer: Panasonic; PartNumber: ALZ52F18; Coil Voltage: 18 V; Electrical Life: 1x10^5 (N.O.), 5x10^4 (N.C.); Max Switching Current: 16 A; Max Switching Voltage: 440 V AC; Mechanical Life(Min.operation): 1x10^7; Nominal Operating Power: 400 mW; Pb-Free: True; DatasheetVersion: 201402-T; PackageVersion: ASCTB203E, 02/2014; PackageReference: LZ-6-2880x1250x1570; PackageDescription: 6-Pin Through Hole Terminal Package, Body 28.8 x 12.5 mm; Supplier 1: Mouser; Supplier Part Number 1: 769-ALZ52F18; Supplier 2: Digi-Key; Supplier Part Number 2: ALZ52F18-ND; Packing: Carton, Case; RoHS: True; Series: LZ Relays; Mounting Technology: Through Hole; ComponentLink1Description: Manufacturer URL; ComponentLink1URL: http://www3.panasonic.biz/ac/ae/index.jsp; ComponentLink2Description: Datasheet; ComponentLink2URL: http://www3.panasonic.biz/ac/e_download/control/relay/power/catalog/mech_eng_lz.pdf?f_cd=300372; ComponentLink3Description: Package Specification; ComponentLink3URL: http://www3.panasonic.biz/ac/e_download/control/relay/power/catalog/mech_eng_lz.pdf?f_cd=300372
footprint PNSC-LZ-6-2880x1250x1570_V (LZ, 6-Leads, Body 28.8x12.5mm)
pins: 1, 2, 3, 4, 5, 6

## ALZ52F24
designator K?
LZ Relays, 24 V Coil Voltage, 400 mW Nominal Operating Power, -40 to 85 degC, 6-Pin LZ, Carton, Case, RoHS; Manufacturer: Panasonic; PartNumber: ALZ52F24; Coil Voltage: 24 V; Electrical Life: 1x10^5 (N.O.), 5x10^4 (N.C.); Max Switching Current: 16 A; Max Switching Voltage: 440 V AC; Mechanical Life(Min.operation): 1x10^7; Nominal Operating Power: 400 mW; Pb-Free: True; DatasheetVersion: 201402-T; PackageVersion: ASCTB203E, 02/2014; PackageReference: LZ-6-2880x1250x1570; PackageDescription: 6-Pin Through Hole Terminal Package, Body 28.8 x 12.5 mm; Supplier 1: Mouser; Supplier Part Number 1: 769-ALZ52F24; Supplier 2: Digi-Key; Supplier Part Number 2: 255-4086-5-ND; Packing: Carton, Case; RoHS: True; Series: LZ Relays; Mounting Technology: Through Hole; ComponentLink1Description: Manufacturer URL; ComponentLink1URL: http://www3.panasonic.biz/ac/ae/index.jsp; ComponentLink2Description: Datasheet; ComponentLink2URL: http://www3.panasonic.biz/ac/e_download/control/relay/power/catalog/mech_eng_lz.pdf?f_cd=300372; ComponentLink3Description: Package Specification; ComponentLink3URL: http://www3.panasonic.biz/ac/e_download/control/relay/power/catalog/mech_eng_lz.pdf?f_cd=300372
footprint PNSC-LZ-6-2880x1250x1570_V (LZ, 6-Leads, Body 28.8x12.5mm)
pins: 1, 2, 3, 4, 5, 6

## ALZ52F24T
designator K?
LZ Relays, 24 V Coil Voltage, 400 mW Nominal Operating Power, -40 to 85 degC, 6-Pin LZ, Carton, Case, RoHS; Manufacturer: Panasonic; PartNumber: ALZ52F24T; Coil Voltage: 24 V; Electrical Life: 1x10^5 (N.O.), 5x10^4 (N.C.); Max Switching Current: 16 A; Max Switching Voltage: 440 V AC; Mechanical Life(Min.operation): 1x10^7; Nominal Operating Power: 400 mW; Pb-Free: True; DatasheetVersion: 201402-T; PackageVersion: ASCTB203E, 02/2014; PackageReference: LZ-6-2880x1250x1570; PackageDescription: 6-Pin Through Hole Terminal Package, Body 28.8 x 12.5 mm; Supplier 1: Mouser; Supplier Part Number 1: N/A; Supplier 2: Mouser; Supplier Part Number 2: N/A; Supplier 3: Digi-Key; Supplier Part Number 3: ALZ52F24T-ND; Packing: Carton, Case; RoHS: True; Series: LZ Relays; Mounting Technology: Through Hole; ComponentLink1Description: Manufacturer URL; ComponentLink1URL: http://www3.panasonic.biz/ac/ae/index.jsp; ComponentLink2Description: Datasheet; ComponentLink2URL: http://www3.panasonic.biz/ac/e_download/control/relay/power/catalog/mech_eng_lz.pdf?f_cd=300372; ComponentLink3Description: Package Specification; ComponentLink3URL: http://www3.panasonic.biz/ac/e_download/control/relay/power/catalog/mech_eng_lz.pdf?f_cd=300372
footprint PNSC-LZ-6-2880x1250x1570_V (LZ, 6-Leads, Body 28.8x12.5mm)
pins: 1, 2, 3, 4, 5, 6

## ALZ52F48
designator K?
LZ Relays, 48 V Coil Voltage, 400 mW Nominal Operating Power, -40 to 85 degC, 6-Pin LZ, Carton, Case, RoHS; Manufacturer: Panasonic; PartNumber: ALZ52F48; Coil Voltage: 48 V; Electrical Life: 1x10^5 (N.O.), 5x10^4 (N.C.); Max Switching Current: 16 A; Max Switching Voltage: 440 V AC; Mechanical Life(Min.operation): 1x10^7; Nominal Operating Power: 400 mW; Pb-Free: True; DatasheetVersion: 201202-T; PackageVersion: ASCTB203E, 02/2014; PackageReference: LZ-6-2880x1250x1570; PackageDescription: 6-Pin Through Hole Terminal Package, Body 28.8 x 12.5 mm; Supplier 1: Mouser; Supplier Part Number 1: 769-ALZ52F48; Supplier 2: Digi-Key; Supplier Part Number 2: ALZ52F48-ND; Packing: Carton, Case; RoHS: True; Series: LZ Relays; Mounting Technology: Through Hole; ComponentLink1Description: Manufacturer URL; ComponentLink1URL: http://www3.panasonic.biz/ac/ae/index.jsp; ComponentLink2Description: Datasheet; ComponentLink2URL: http://datasheet.octopart.com/ALZ52F48T-Panasonic-datasheet-12512151.pdf; ComponentLink3Description: Package Specification; ComponentLink3URL: http://www3.panasonic.biz/ac/e_download/control/relay/power/catalog/mech_eng_lz.pdf?f_cd=300372
footprint PNSC-LZ-6-2880x1250x1570_V (LZ, 6-Leads, Body 28.8x12.5mm)
pins: 1, 2, 3, 4, 5, 6

## ALZ52F48T
designator K?
LZ Relays, 48 V Coil Voltage, 400 mW Nominal Operating Power, -40 to 85 degC, 6-Pin LZ, Carton, Case, RoHS; Manufacturer: Panasonic; PartNumber: ALZ52F48T; Coil Voltage: 48 V; Electrical Life: 1x10^5 (N.O.), 5x10^4 (N.C.); Max Switching Current: 16 A; Max Switching Voltage: 440 V AC; Mechanical Life(Min.operation): 1x10^7; Nominal Operating Power: 400 mW; Pb-Free: True; DatasheetVersion: 201202-T; PackageVersion: ASCTB203E, 02/2014; PackageReference: LZ-6-2880x1250x1570; PackageDescription: 6-Pin Through Hole Terminal Package, Body 28.8 x 12.5 mm; Supplier 1: Mouser; Supplier Part Number 1: N/A; Supplier 2: Mouser; Supplier Part Number 2: N/A; Supplier 3: Digi-Key; Supplier Part Number 3: ALZ52F48T-ND; Packing: Carton, Case; RoHS: True; Series: LZ Relays; Mounting Technology: Through Hole; ComponentLink1Description: Manufacturer URL; ComponentLink1URL: http://www3.panasonic.biz/ac/ae/index.jsp; ComponentLink2Description: Datasheet; ComponentLink2URL: http://datasheet.octopart.com/ALZ52F48T-Panasonic-datasheet-12512151.pdf; ComponentLink3Description: Package Specification; ComponentLink3URL: http://www3.panasonic.biz/ac/e_download/control/relay/power/catalog/mech_eng_lz.pdf?f_cd=300372
footprint PNSC-LZ-6-2880x1250x1570_V (LZ, 6-Leads, Body 28.8x12.5mm)
pins: 1, 2, 3, 4, 5, 6

## APF1024H
designator K?
PF Relays, 4.5 V Coil Voltage, 170 mW Nominal Operating Power, -40 to 85 degC, 4-Pin PF, Tube, Case, RoHS; Manufacturer: Panasonic; PartNumber: APF1024H; Coil Voltage: 4.5 V; Electrical Life: 5x10^4; Max Switching Current: 6 A; Max Switching Voltage: 250 V AC; Mechanical Life(Min.operation): 5x10^6; Nominal Operating Power: 170 mW; Pb-Free: True; DatasheetVersion: 201402-T; PackageVersion: ASCTB205E, 02/2014; PackageReference: PF-4-2800x500x1500; PackageDescription: 4-Pin Through Hole Terminal Package, Body 28 x 5 mm; Supplier 1: Mouser; Supplier Part Number 1: 769-APF1024H; Supplier 2: Digi-Key; Supplier Part Number 2: 255-2904-ND; Packing: Tube, Case; RoHS: True; Series: PF Relays; Mounting Technology: Through Hole; ComponentLink1Description: Manufacturer URL; ComponentLink1URL: http://www3.panasonic.biz/ac/ae/index.jsp; ComponentLink2Description: Datasheet; ComponentLink2URL: http://www3.panasonic.biz/ac/e_download/control/relay/power/catalog/mech_eng_pf.pdf?f_cd=300412; ComponentLink3Description: Package Specification; ComponentLink3URL: http://www3.panasonic.biz/ac/e_download/control/relay/power/catalog/mech_eng_pf.pdf?f_cd=300412
footprint PNSC-PF-4-2800x500x1500_V (PF, 4-Leads, Body 28x5mm)
pins: 1, 2, 3 COM, 4 NO

## APF1034H
designator K?
PF Relays, 4.5 V Coil Voltage, 170 mW Nominal Operating Power, -40 to 85 degC, 4-Pin PF, Tube, Case, RoHS; Manufacturer: Panasonic; PartNumber: APF1034H; Coil Voltage: 4.5 V; Electrical Life: 5x10^4; Max Switching Current: 6 A; Max Switching Voltage: 250 V AC; Mechanical Life(Min.operation): 5x10^6; Nominal Operating Power: 170 mW; Pb-Free: True; DatasheetVersion: 201402-T; PackageVersion: ASCTB205E, 02/2014; PackageReference: PF-4-2800x500x1500; PackageDescription: 4-Pin Through Hole Terminal Package, Body 28 x 5 mm; Supplier 1: Mouser; Supplier Part Number 1: 769-APF1034H; Supplier 2: Digi-Key; Supplier Part Number 2: APF1034H-ND; Packing: Tube, Case; RoHS: True; Series: PF Relays; Mounting Technology: Through Hole; ComponentLink1Description: Manufacturer URL; ComponentLink1URL: http://www3.panasonic.biz/ac/ae/index.jsp; ComponentLink2Description: Datasheet; ComponentLink2URL: http://www3.panasonic.biz/ac/e_download/control/relay/power/catalog/mech_eng_pf.pdf?f_cd=300412; ComponentLink3Description: Package Specification; ComponentLink3URL: http://www3.panasonic.biz/ac/e_download/control/relay/power/catalog/mech_eng_pf.pdf?f_cd=300412
footprint PNSC-PF-4-2800x500x1500_V (PF, 4-Leads, Body 28x5mm)
pins: 1, 2, 3 COM, 4 NO

## APF3024H
designator K?
PF Relays, 4.5 V Coil Voltage, 170 mW Nominal Operating Power, -40 to 85 degC, 5-Pin PF, Tube, Case, RoHS; Manufacturer: Panasonic; PartNumber: APF3024H; Coil Voltage: 4.5 V; Electrical Life: 5x10^4 (N.O.), 3x10^4 (N.C.); Max Switching Current: 6 A; Max Switching Voltage: 250 V AC; Mechanical Life(Min.operation): 5x10^6; Nominal Operating Power: 170 mW; Pb-Free: True; DatasheetVersion: 201402-T; PackageVersion: ASCTB205E, 02/2014; PackageReference: PF-5-2800x500x1500; PackageDescription: 5-Pin Through Hole Terminal Package, Body 28 x 5 mm; Supplier 1: Mouser; Supplier Part Number 1: N/A; Supplier 2: Digi-Key; Supplier Part Number 2: 255-2908-ND; Packing: Tube, Case; RoHS: True; Series: PF Relays; Mounting Technology: Through Hole; ComponentLink1Description: Manufacturer URL; ComponentLink1URL: http://www3.panasonic.biz/ac/ae/index.jsp; ComponentLink2Description: Datasheet; ComponentLink2URL: http://www3.panasonic.biz/ac/e_download/control/relay/power/catalog/mech_eng_pf.pdf?f_cd=300412; ComponentLink3Description: Package Specification; ComponentLink3URL: http://www3.panasonic.biz/ac/e_download/control/relay/power/catalog/mech_eng_pf.pdf?f_cd=300412
footprint PNSC-PF-5-2800x500x1500_V (PF, 5-Leads, Body 28x5mm)
pins: 1, 2, 3 NC, 4 COM, 5 NO

## APF3034H
designator K?
PF Relays, 4.5 V Coil Voltage, 170 mW Nominal Operating Power, -40 to 85 degC, 5-Pin PF, Tube, Case, RoHS; Manufacturer: Panasonic; PartNumber: APF3034H; Coil Voltage: 4.5 V; Electrical Life: 5x10^4 (N.O.), 3x10^4 (N.C.); Max Switching Current: 6 A; Max Switching Voltage: 250 V AC; Mechanical Life(Min.operation): 5x10^6; Nominal Operating Power: 170 mW; Pb-Free: True; DatasheetVersion: 201402-T; PackageVersion: ASCTB205E, 02/2014; PackageReference: PF-5-2800x500x1500; PackageDescription: 5-Pin Through Hole Terminal Package, Body 28 x 5 mm; Supplier 1: Mouser; Supplier Part Number 1: 769-APF3034H; Supplier 2: Digi-Key; Supplier Part Number 2: 255-4085-5-ND; Packing: Tube, Case; RoHS: True; Series: PF Relays; Mounting Technology: Through Hole; ComponentLink1Description: Manufacturer URL; ComponentLink1URL: http://www3.panasonic.biz/ac/ae/index.jsp; ComponentLink2Description: Datasheet; ComponentLink2URL: http://www3.panasonic.biz/ac/e_download/control/relay/power/catalog/mech_eng_pf.pdf?f_cd=300412; ComponentLink3Description: Package Specification; ComponentLink3URL: http://www3.panasonic.biz/ac/e_download/control/relay/power/catalog/mech_eng_pf.pdf?f_cd=300412
footprint PNSC-PF-5-2800x500x1500_V (PF, 5-Leads, Body 28x5mm)
pins: 1, 2, 3 NC, 4 COM, 5 NO

## APF10205
designator K?
PF Relays, 5 V Coil Voltage, 170 mW Nominal Operating Power, -40 to 85 degC, 4-Pin PF, Tube, Case, RoHS; Manufacturer: Panasonic; PartNumber: APF10205; Coil Voltage: 5 V; Electrical Life: 5x10^4; Max Switching Current: 6 A; Max Switching Voltage: 250 V AC; Mechanical Life(Min.operation): 5x10^6; Nominal Operating Power: 170 mW; Pb-Free: True; DatasheetVersion: 201402-T; PackageVersion: ASCTB205E, 02/2014; PackageReference: PF-4-2800x500x1500; PackageDescription: 4-Pin Through Hole Terminal Package, Body 28 x 5 mm; Supplier 1: Mouser; Supplier Part Number 1: N/A; Supplier 2: Digi-Key; Supplier Part Number 2: 255-4238-5-ND; Packing: Tube, Case; RoHS: True; Series: PF Relays; Mounting Technology: Through Hole; ComponentLink1Description: Manufacturer URL; ComponentLink1URL: http://www3.panasonic.biz/ac/ae/index.jsp; ComponentLink2Description: Datasheet; ComponentLink2URL: http://www3.panasonic.biz/ac/e_download/control/relay/power/catalog/mech_eng_pf.pdf?f_cd=300412; ComponentLink3Description: Package Specification; ComponentLink3URL: http://www3.panasonic.biz/ac/e_download/control/relay/power/catalog/mech_eng_pf.pdf?f_cd=300412
footprint PNSC-PF-4-2800x500x1500_V (PF, 4-Leads, Body 28x5mm)
pins: 1, 2, 3 COM, 4 NO

## APF10206
designator K?
PF Relays, 6 V Coil Voltage, 170 mW Nominal Operating Power, -40 to 85 degC, 4-Pin PF, Tube, Case, RoHS; Manufacturer: Panasonic; PartNumber: APF10206; Coil Voltage: 6 V; Electrical Life: 5x10^4; Max Switching Current: 6 A; Max Switching Voltage: 250 V AC; Mechanical Life(Min.operation): 5x10^6; Nominal Operating Power: 170 mW; Pb-Free: True; DatasheetVersion: 201402-T; PackageVersion: ASCTB205E, 02/2014; PackageReference: PF-4-2800x500x1500; PackageDescription: 4-Pin Through Hole Terminal Package, Body 28 x 5 mm; Supplier 1: Mouser; Supplier Part Number 1: N/A; Supplier 2: Digi-Key; Supplier Part Number 2: 255-4239-5-ND; Packing: Tube, Case; RoHS: True; Series: PF Relays; Mounting Technology: Through Hole; ComponentLink1Description: Manufacturer URL; ComponentLink1URL: http://www3.panasonic.biz/ac/ae/index.jsp; ComponentLink2Description: Datasheet; ComponentLink2URL: http://www3.panasonic.biz/ac/e_download/control/relay/power/catalog/mech_eng_pf.pdf?f_cd=300412; ComponentLink3Description: Package Specification; ComponentLink3URL: http://www3.panasonic.biz/ac/e_download/control/relay/power/catalog/mech_eng_pf.pdf?f_cd=300412
footprint PNSC-PF-4-2800x500x1500_V (PF, 4-Leads, Body 28x5mm)
pins: 1, 2, 3 COM, 4 NO

## APF10209
designator K?
PF Relays, 9 V Coil Voltage, 170 mW Nominal Operating Power, -40 to 85 degC, 4-Pin PF, Tube, Case, RoHS; Manufacturer: Panasonic; PartNumber: APF10209; Coil Voltage: 9 V; Electrical Life: 5x10^4; Max Switching Current: 6 A; Max Switching Voltage: 250 V AC; Mechanical Life(Min.operation): 5x10^6; Nominal Operating Power: 170 mW; Pb-Free: True; DatasheetVersion: 201402-T; PackageVersion: ASCTB205E, 02/2014; PackageReference: PF-4-2800x500x1500; PackageDescription: 4-Pin Through Hole Terminal Package, Body 28 x 5 mm; Supplier 1: Mouser; Supplier Part Number 1: N/A; Supplier 2: Digi-Key; Supplier Part Number 2: APF10209-ND; Packing: Tube, Case; RoHS: True; Series: PF Relays; Mounting Technology: Through Hole; ComponentLink1Description: Manufacturer URL; ComponentLink1URL: http://www3.panasonic.biz/ac/ae/index.jsp; ComponentLink2Description: Datasheet; ComponentLink2URL: http://www3.panasonic.biz/ac/e_download/control/relay/power/catalog/mech_eng_pf.pdf?f_cd=300412; ComponentLink3Description: Package Specification; ComponentLink3URL: http://www3.panasonic.biz/ac/e_download/control/relay/power/catalog/mech_eng_pf.pdf?f_cd=300412
footprint PNSC-PF-4-2800x500x1500_V (PF, 4-Leads, Body 28x5mm)
pins: 1, 2, 3 COM, 4 NO